# Altium footprint library CY489-04-01-01-00-01_单兵信息终端电路板PCB.PcbLib: 25 footprints (part 1 of 2)
Each footprint in its own frame and in the unit in brackets; x right, y up, seen from the top. Pads: shape width x height; smd on the part's side, far side on the other; paste and mask are expansions set on the pad; w line width, h text height; cw(c..) or ccw(c..) is an arc to the next point about the centre after c.
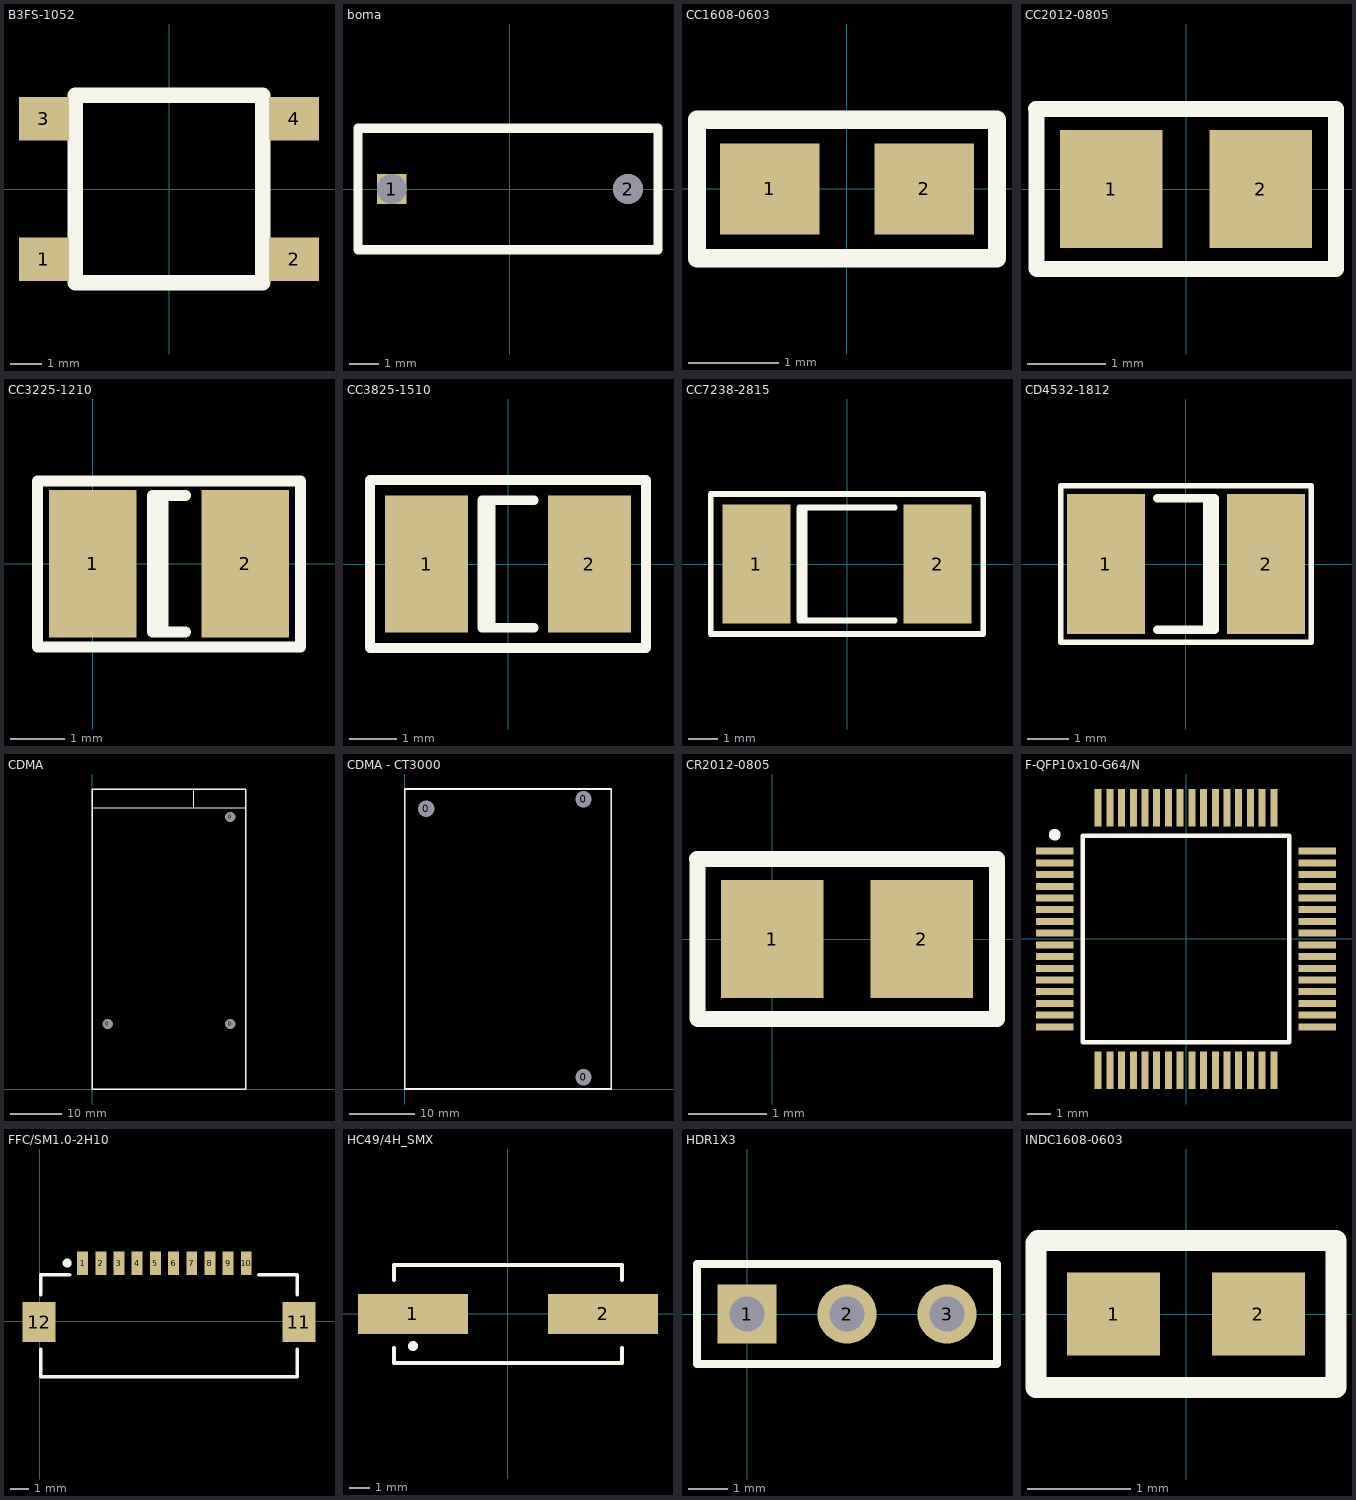
[diagram p0: the footprints below, top view; thin cyan lines are the x and y axes]

## B3FS-1052 [mm]
pads (4):
  rect 1.6x1.4 smd: 1(-4,-2.25) 2(4,-2.25) 3(-4,2.25) 4(4,2.25)
Top Overlay:
  lines w0.508: -3,-3 3,-3 3,3 -3,3 -3,-3

## boma [mm]
pads (2):
  rect 1x1 hole 1: 1(-3.95,0)
  round 1 hole 1: 2(3.95,0)
Top Overlay:
  lines w0.305: -5.08,-2.032 4.953,-2.032 4.953,2.032 -5.08,2.032 -5.08,-2.032

## CC1608-0603 [mm]
pads (2):
  rect 1.1x1 smd: 1(-0.85,0) 2(0.85,0)
Top Overlay:
  lines w0.203: -1.651,-0.762 1.651,-0.762 1.651,0.762 -1.651,0.762 -1.651,-0.762

## CC2012-0805 [mm]
pads (2):
  rect 1.3x1.5 smd: 1(-0.95,0) 2(0.95,0)
Top Overlay:
  lines w0.2: -1.9,-0.65 -1.9,0.65
  lines w0.203: -1.9,-0.65 -1.9,-1.011 -1.895,-1.016 1.905,-1.016 1.905,1.016 -1.905,1.016 -1.9,1.011 -1.9,0.65

## CC3225-1210 [mm]
pads (2):
  rect 1.6x2.7 smd: 1(0,0) 2(2.8,0)
Top Overlay:
  lines w0.2: 1.29,-1.25 1.29,1.25 ; 1.7,-1.25 1.1,-1.25 1.1,1.25 1.7,1.25
  lines w0.203: -1.014,-1.53 3.812,-1.53 3.812,1.518 -1.014,1.518 -1.014,-1.53

## CC3825-1510 [mm]
pads (2):
  rect 1.75x2.9 smd: 1(-1.725,0) 2(1.725,0)
Top Overlay:
  lines w0.2: -0.36,-1.35 -0.36,1.35 ; 0.55,-1.35 -0.55,-1.35 -0.55,1.35 0.55,1.35
  lines w0.203: -2.921,-1.778 -2.921,1.778 2.921,1.778 2.921,-1.778 -2.921,-1.778

## CC7238-2815 [mm]
pads (2):
  rect 2.35x4.1 smd: 1(-3.125,0) 2(3.125,0)
Top Overlay:
  lines w0.2: -1.46,-1.95 -1.46,1.95 ; 1.65,-1.95 -1.65,-1.95 -1.65,1.95 1.65,1.95
  lines w0.203: -4.699,-2.413 -4.699,2.413 4.699,2.413 4.699,-2.413 -4.699,-2.413

## CD4532-1812 [mm]
pads (2):
  rect 1.9x3.4 smd: 1(-1.95,0) 2(1.95,0)
Top Overlay:
  lines w0.127: -3.048,-1.905 -3.048,1.905 3.048,1.905 3.048,-1.905 -3.048,-1.905
  lines w0.2: -0.7,-1.6 0.7,-1.6 0.7,1.6 -0.7,1.6 ; 0.51,-1.6 0.51,1.6

## CDMA [mm]
pads (3):
  round 1.5 hole 2: 0(3,12.8) 0(27.1,12.8) 0(27.1,53.5)
Top Overlay:
  lines w0.203: 0,55.3 30.1,55.3 ; 19.939,55.3 19.939,59
  lines w0.254: 0,0 0,59 30.1,59 30.1,0 0,0

## CDMA - CT3000 [mm]
pads (3):
  round 2 hole 2.5: 0(3.283,42.796) 0(27.283,1.796) 0(27.283,44.246)
Top Overlay:
  lines w0.254: 0,0 0,45.8 31.5,45.8 31.5,0 0,0

## CR2012-0805 [mm]
pads (2):
  rect 1.3x1.5 smd: 1(0,0) 2(1.9,0)
Top Overlay:
  lines w0.2: -0.95,-0.65 -0.95,0.65
  lines w0.203: -0.95,-0.65 -0.95,-1.011 -0.945,-1.016 2.855,-1.016 2.855,1.016 -0.955,1.016 -0.95,1.011 -0.95,0.65

## F-QFP10x10-G64/N [mm]
pads (64):
  rect 1.6x0.3 smd: 1(-5.6,3.746) 2(-5.6,3.246) 3(-5.6,2.746) 4(-5.6,2.246) 5(-5.6,1.746) 6(-5.6,1.246) 7(-5.6,0.746) 8(-5.6,0.246) 9(-5.6,-0.254) 10(-5.6,-0.754) 11(-5.6,-1.254) 12(-5.6,-1.754) 13(-5.6,-2.254) 14(-5.6,-2.754) 15(-5.6,-3.254) 16(-5.6,-3.754) 33(5.6,-3.754) 34(5.6,-3.254) 35(5.6,-2.754) 36(5.6,-2.254) 37(5.6,-1.754) 38(5.6,-1.254) 39(5.6,-0.754) 40(5.6,-0.254) 41(5.6,0.246) 42(5.6,0.746) 43(5.6,1.246) 44(5.6,1.746) 45(5.6,2.246) 46(5.6,2.746) 47(5.6,3.246) 48(5.6,3.746)
  rect 0.3x1.6 smd: 17(-3.75,-5.604) 18(-3.25,-5.604) 19(-2.75,-5.604) 20(-2.25,-5.604) 21(-1.75,-5.604) 22(-1.25,-5.604) 23(-0.75,-5.604) 24(-0.25,-5.604) 25(0.25,-5.604) 26(0.75,-5.604) 27(1.25,-5.604) 28(1.75,-5.604) 29(2.25,-5.604) 30(2.75,-5.604) 31(3.25,-5.604) 32(3.75,-5.604) 49(3.75,5.596) 50(3.25,5.596) 51(2.75,5.596) 52(2.25,5.596) 53(1.75,5.596) 54(1.25,5.596) 55(0.75,5.596) 56(0.25,5.596) 57(-0.25,5.596) 58(-0.75,5.596) 59(-1.25,5.596) 60(-1.75,5.596) 61(-2.25,5.596) 62(-2.75,5.596) 63(-3.25,5.596) 64(-3.75,5.596)
Top Overlay:
  circle w0.25: c-5.6,4.446 r0.125
  lines w0.2: -4.4,-4.404 4.4,-4.404 4.4,4.396 -4.4,4.396 -4.4,-4.404

## FFC/SM1.0-2H10 [mm]
pads (12):
  rect 0.6x1.3 smd: 1(2.362,3.2) 2(3.362,3.2) 3(4.362,3.2) 4(5.362,3.2) 5(6.362,3.2) 6(7.362,3.2) 7(8.362,3.2) 8(9.362,3.2) 9(10.362,3.2) 10(11.362,3.2)
  rect 1.8x2.2 smd: 11(14.262,-0.05) 12(-0.038,-0.05)
Top Overlay:
  circle w0.25: c1.512,3.2 r0.125
  lines w0.2: 0.062,-1.55 0.062,-3.05 14.162,-3.05 14.162,-1.55 ; 0.062,1.45 0.062,2.55 1.662,2.55 ; 12.062,2.55 14.162,2.55 14.162,1.45

## HC49/4H_SMX [mm]
pads (2):
  rect 5.5x2 smd: 1(-4.75,0) 2(4.75,0)
Top Overlay:
  circle w0.25: c-4.75,-1.6 r0.125
  lines w0.2: -5.7,-1.7 -5.7,-2.45 5.7,-2.45 5.7,-1.7 ; -5.7,1.7 -5.7,2.45 5.7,2.45 5.7,1.7

## HDR1X3 [mm]
pads (3):
  rect 1.5x1.5 hole 0.9: 1(0,0)
  round 1.5 hole 0.9: 2(2.54,0) 3(5.08,0)
Top Overlay:
  lines w0.2: -1.27,-1.27 -1.27,1.27 6.35,1.27 6.35,-1.27 -1.27,-1.27

## INDC1608-0603 [mm]
pads (2):
  rect 0.9x0.8 smd: 1(-0.7,0) 2(0.7,0)
Top Overlay:
  lines w0.2: -1.45,-0.3 -1.45,0.3
  lines w0.203: -1.45,-0.3 -1.45,-0.561 -1.45,-0.709 1.45,-0.709 1.45,0.709 -1.429,0.709 ; -1.45,0.3 -1.45,0.688